# EAGLE library part FEATHER_M0_BASIC_PROTO (library FEATHER_M0_BASIC_PROTO)
ATSAMD21G18 Feather M0 Basic Proto SAM D ARM® Cortex®-M0+ MCU 32-Bit Embedded Evaluation Board Check availability <https://pricing.snapeda.com/parts/Feather%20M0%20Basic%20Proto/Adafruit%20Industries/view-part?ref=eda>
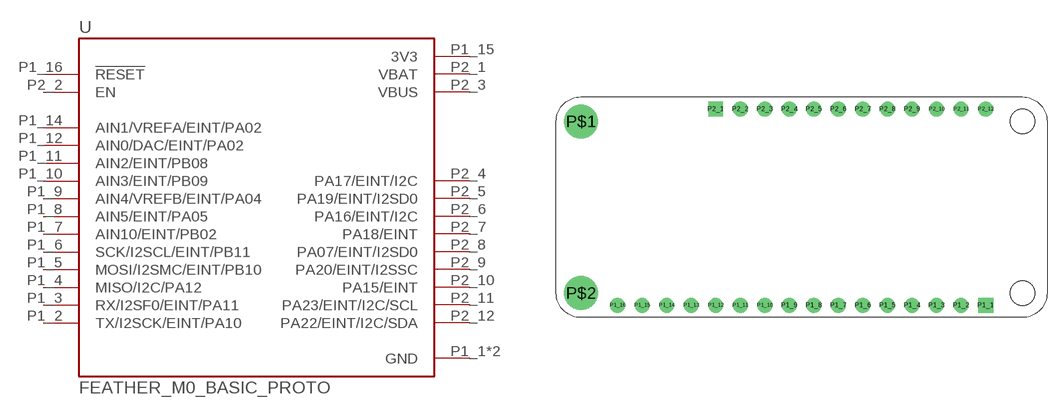
[diagram p0: symbol with the pads of MODULE_FEATHER_M0_BASIC_PROTO; footprint MODULE_FEATHER_M0_BASIC_PROTO]

Designator prefix U

## FEATHER_M0_BASIC_PROTO (AVAILABILITY: Not in stock; CHECK_PRICES: https://www.snapeda.com/parts/Feather%20M0%20Basic%20Proto/Adafruit+Industries/view-part/?ref=eda; DESCRIPTION: ATSAMD21G18 Feather M0 Basic Proto series ARM® Cortex®-M0+ MCU 32-Bit Embedded Evaluation Board; MF: Adafruit Industries; MP: Feather M0 Basic Proto; PACKAGE: None; PRICE: None; SNAPEDA_LINK: https://www.snapeda.com/parts/Feather%20M0%20Basic%20Proto/Adafruit+Industries/view-part/?ref=snap)  [MODULE_FEATHER_M0_BASIC_PROTO]
P1_1  GND  pwr
P1_2  TX/I2SCK/EINT/PA10
P1_3  RX/I2SF0/EINT/PA11
P1_4  MISO/I2C/PA12
P1_5  MOSI/I2SMC/EINT/PB10
P1_6  SCK/I2SCL/EINT/PB11
P1_7  AIN10/EINT/PB02
P1_8  AIN5/EINT/PA05
P1_9  AIN4/VREFB/EINT/PA04
P1_10  AIN3/EINT/PB09
P1_11  AIN2/EINT/PB08
P1_12  AIN0/DAC/EINT/PA02
P1_13  GND  pwr
P1_14  AIN1/VREFA/EINT/PA02
P1_15  3V3  pwr
P1_16  !RESET  in
P2_1  VBAT  pwr
P2_2  EN  in
P2_3  VBUS  pwr
P2_4  PA17/EINT/I2C
P2_5  PA19/EINT/I2SD0
P2_6  PA16/EINT/I2C
P2_7  PA18/EINT
P2_8  PA07/EINT/I2SD0
P2_9  PA20/EINT/I2SSC
P2_10  PA15/EINT
P2_11  PA23/EINT/I2C/SCL
P2_12  PA22/EINT/I2C/SDA

## Footprint MODULE_FEATHER_M0_BASIC_PROTO (pad centres in mm)
drill 1.02 square: P1_1 19.05,-10.16; P2_1 -8.89,10.16
drill 1.02: P1_2 16.51,-10.16; P1_3 13.97,-10.16; P1_4 11.43,-10.16; P1_5 8.89,-10.16; P1_6 6.35,-10.16; P1_7 3.81,-10.16; P1_8 1.27,-10.16; P1_9 -1.27,-10.16; P1_10 -3.81,-10.16; P1_11 -6.35,-10.16; P1_12 -8.89,-10.16; P1_13 -11.43,-10.16; P1_14 -13.97,-10.16; P1_15 -16.51,-10.16; P1_16 -19.05,-10.16; P2_2 -6.35,10.16; P2_3 -3.81,10.16; P2_4 -1.27,10.16; P2_5 1.27,10.16; P2_6 3.81,10.16; P2_7 6.35,10.16; P2_8 8.89,10.16; P2_9 11.43,10.16; P2_10 13.97,10.16; P2_11 16.51,10.16; P2_12 19.05,10.16
drill 2.5 pad 3.2: P$1 -22.86,8.89; P$2 -22.86,-8.89
hole 2.54 at 22.86,-8.89
hole 2.54 at 22.86,8.89